# EAGLE library part DS1302D (library CEDTv76)
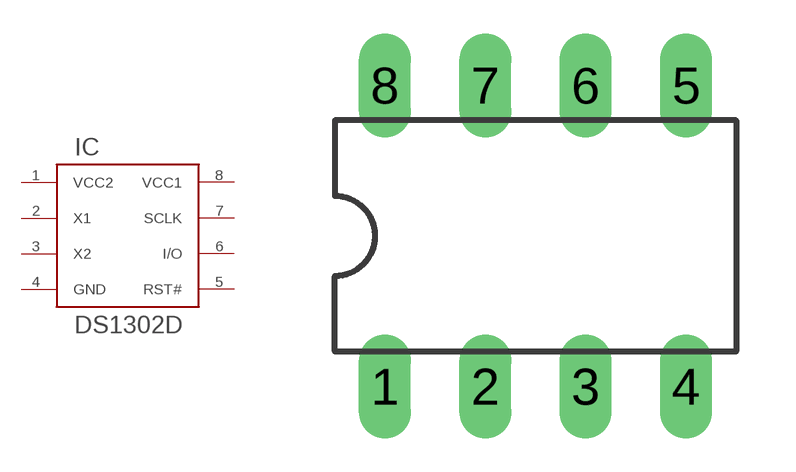
[diagram p31: symbol with the pads of DIL08; footprint DIL08]

Designator prefix IC

## DS1302DDIP  [DIL08]
1  VCC2  in
2  X1  in
3  X2  in
4  GND  pwr
5  RST#
6  I/O  in
7  SCLK
8  VCC1  pwr

## Footprint DIL08 (pad centres in mm)
Dual In Line Package
drill 0.813 long: 1 -3.81,-3.81; 2 -1.27,-3.81; 3 1.27,-3.81; 4 3.81,-3.81; 5 3.81,3.81; 6 1.27,3.81; 7 -1.27,3.81; 8 -3.81,3.81